# Altium footprint library 2way RA header.PcbLib: 1 footprints
Each footprint in its own frame and in the unit in brackets; x right, y up, seen from the top. Pads: shape width x height; smd on the part's side, far side on the other; paste and mask are expansions set on the pad; w line width, h text height; cw(c..) or ccw(c..) is an arc to the next point about the centre after c.
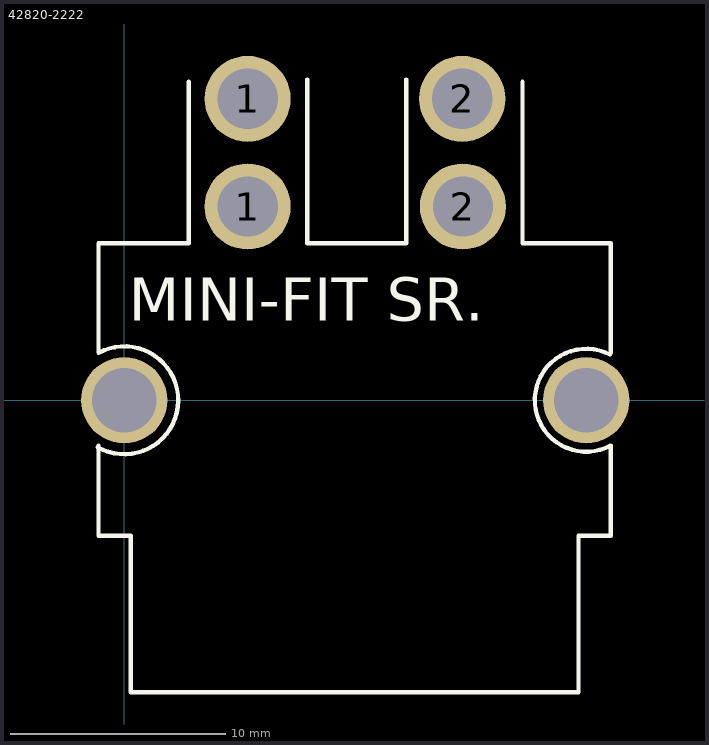
[diagram p0: the footprint, top view; thin cyan lines are the x and y axes]

## 42820-2222 [mm] "Molex Mini-Fit Sr 2way R/A"
height 14.1
pads (6):
  round 4 hole 2.8: 1(5.73,9) 1(5.73,14) 2(15.7,14) 2(15.73,9)
  round 4 hole 3: ""(0,0) ""(21.46,0)
Top Overlay:
  lines w0.2: -1.243,-2.176 ccw(c0,0) -1.2,2.2 -1.2,7.3 1.6,7.3 3,7.3 3,10.5 3,14.8 ; -1.2,-2.1 -1.2,-6.3 0.3,-6.3 0.3,-13.56 21.1,-13.56 21.1,-6.3 22.6,-6.3 22.6,-2.1 cw(c21.46,0) 22.559,2.122 ; 8.5,14.9 8.5,7.3 13.1,7.3 13.1,14.9 ; 18.5,14.8 18.5,7.3 22.6,7.3 22.6,2.2
  text "MINI-FIT SR." at 0.2,3.7 h2
3D body: height 13.9, standoff -5.3, extent -1.2,-13.7 22.62,14.9